# Altium footprint library 贴片.PcbLib: 161 footprints (part 4 of 11)
Each footprint in its own frame and in the unit in brackets; x right, y up, seen from the top. Pads: shape width x height; smd on the part's side, far side on the other; paste and mask are expansions set on the pad; w line width, h text height; cw(c..) or ccw(c..) is an arc to the next point about the centre after c.
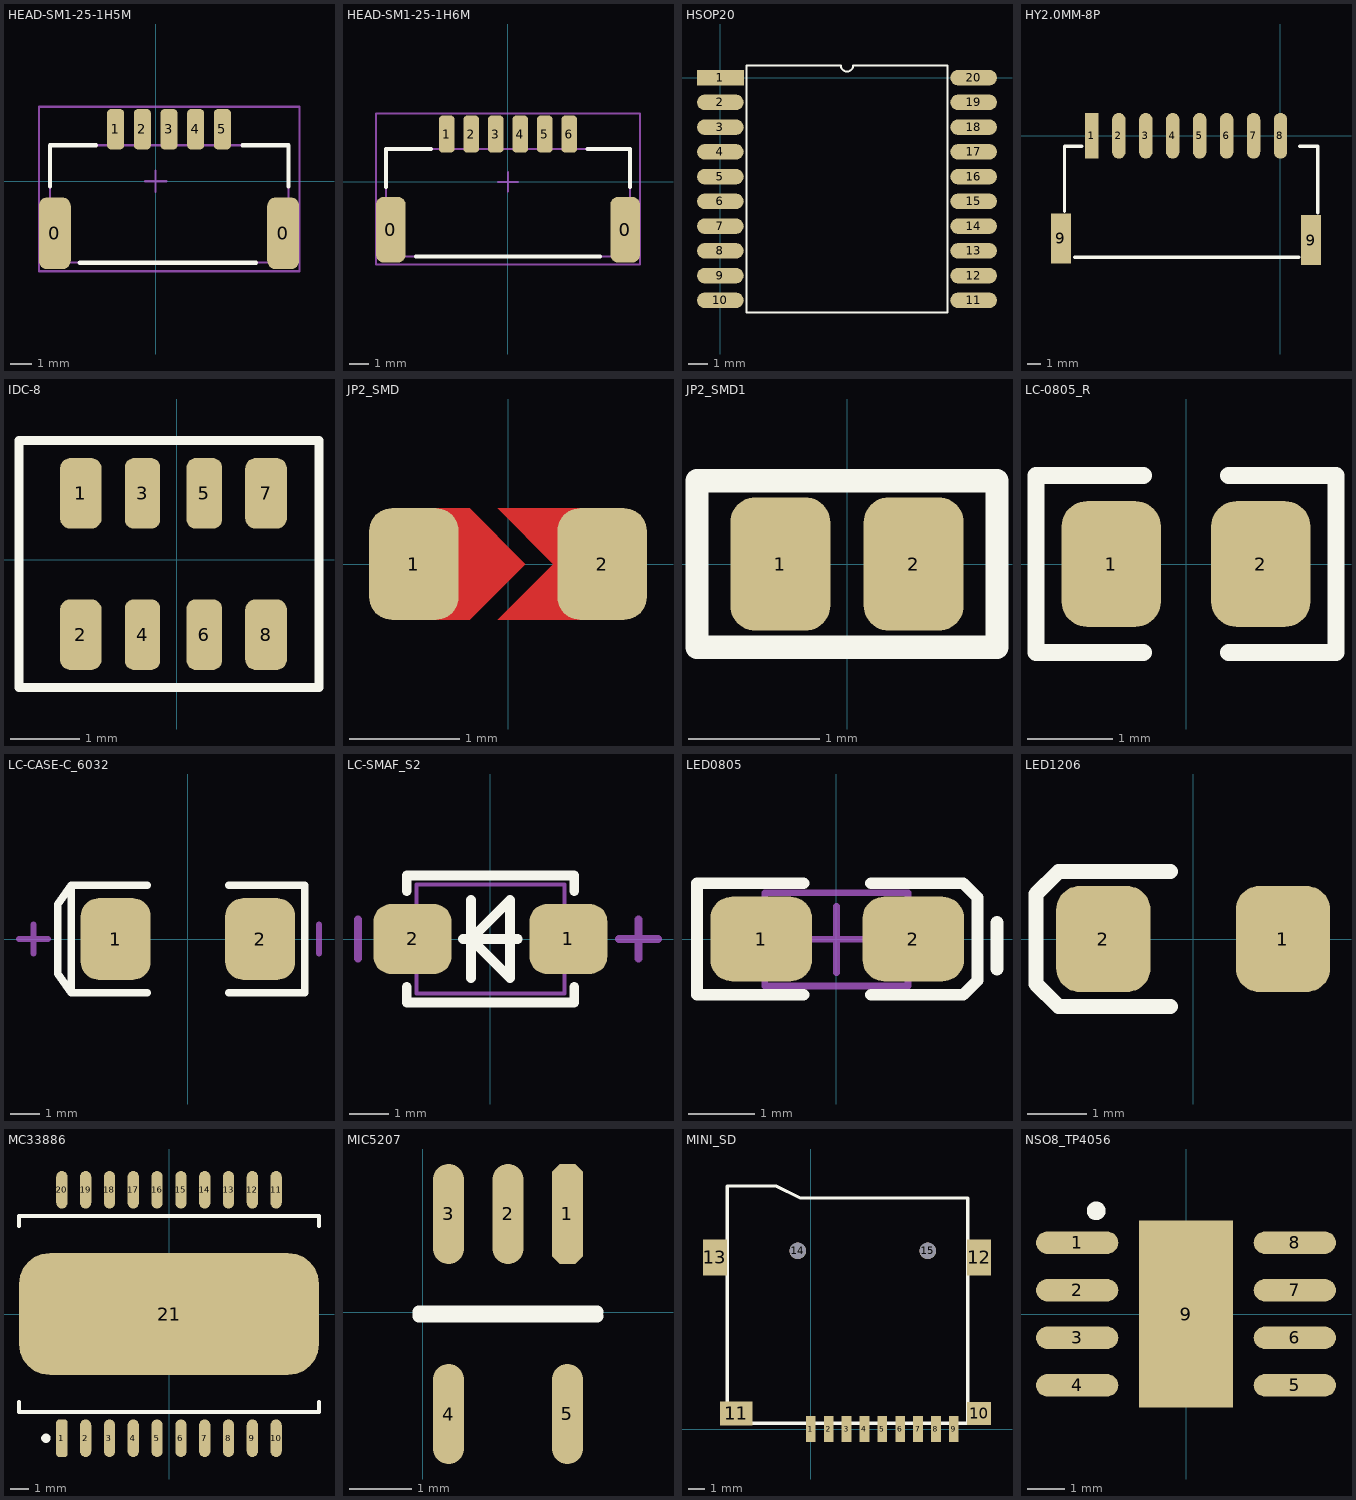
[diagram p3: the footprints below, top view; thin cyan lines are the x and y axes]

## HEAD-SM1-25-1H5M [mm] "Header, Wire-to-Board, SMT, Horizontal, 1-Row, Pitch 1.25mm, 2-Position"
pads (7):
  rrect50% 1.5x3.35 smd: 0(-4.725,-2.437) 0(5.975,-2.437)
  rrect50% 0.8x1.9 smd: 1(-1.875,2.438) 2(-0.625,2.438) 3(0.625,2.438) 4(1.875,2.438) 5(3.125,2.438)
Top Overlay:
  lines w0.2: -4.953,-0.25 -4.953,1.688 -2.794,1.688 ; -3.556,-3.81 4.699,-3.81 ; 4.064,1.688 6.223,1.688 6.223,-0.25
Mechanical 13:
  lines w0.1: -4.953,-3.812 6.223,-3.812 6.223,1.688 -4.953,1.688 -4.953,-3.812
Mechanical 15:
  lines w0.1: -0.5,0 0.5,0 ; 0,-0.5 0,0.5 ; -5.461,-4.212 6.731,-4.212 6.731,3.488 -5.461,3.488 -5.461,-4.212

## HEAD-SM1-25-1H6M [mm] "Header, Wire-to-Board, SMT, Horizontal, 1-Row, Pitch 1.25mm, 2-Position"
pads (8):
  rrect50% 1.5x3.35 smd: 0(-5.975,-2.437) 0(5.975,-2.437)
  rrect50% 0.8x1.9 smd: 1(-3.125,2.438) 2(-1.875,2.438) 3(-0.625,2.438) 4(0.625,2.438) 5(1.875,2.438) 6(3.125,2.438)
Top Overlay:
  lines w0.2: -6.223,-0.25 -6.223,1.688 -3.937,1.688 ; -4.699,-3.81 4.699,-3.81 ; 4.064,1.688 6.223,1.688 6.223,-0.25
Mechanical 13:
  lines w0.1: -6.223,-3.812 -6.223,1.688 6.223,1.688 6.223,-3.812 -6.223,-3.812
Mechanical 15:
  lines w0.1: -0.5,0 0.5,0 ; 0,-0.5 0,0.5 ; -6.731,-4.212 -6.731,3.488 6.731,3.488 6.731,-4.212 -6.731,-4.212

## HSOP20 [mm]
pads (20):
  rect 2.4x0.8 smd: 1(0,0)
  oval 2.4x0.8 smd: 2(0,-1.27) 3(0,-2.54) 4(0,-3.81) 5(0,-5.08) 6(0,-6.35) 7(0,-7.62) 8(0,-8.89) 9(0,-10.16) 10(0,-11.43) 11(13,-11.43) 12(13,-10.16) 13(13,-8.89) 14(13,-7.62) 15(13,-6.35) 16(13,-5.08) 17(13,-3.81) 18(13,-2.54) 19(13,-1.27) 20(13,0)
Top Overlay:
  lines w0.1: 1.335,-12.065 1.335,0.635 6.182,0.635 ccw(c6.5,0.635) 6.817,0.635 11.665,0.635 11.665,-12.065 1.335,-12.065

## HY2.0MM-8P [mm] "带扣 HY2.0 卧式贴片 2.0MM 8P 插座"
height 11.5
pads (10):
  rect 1x3.4 smd: 1(-13.97,0)
  oval 1x3.4 smd: 2(-11.97,0) 3(-9.97,0) 4(-7.97,0) 5(-5.97,0) 6(-3.97,0) 7(-1.97,0) 8(0.03,0)
  rect 1.5x3.7 smd: 9(-16.27,-7.62) 9(2.3,-7.747)
Top Overlay:
  lines w0.254: -16.002,-5.588 -16.002,-0.889 ; -16.002,-0.762 -14.707,-0.762 ; -15.24,-9.017 1.397,-9.017 ; 1.462,-0.762 2.757,-0.762 ; 2.794,-5.715 2.794,-0.762

## IDC-8 [mil]
pads (8):
  rrect50% 23.62x40 smd: 1(-54.33,37.68) 2(-54.33,-42.32) 7(50.67,37.68) 8(50.67,-42.32)
  rrect50% 20x40 smd: 3(-19.33,37.68) 4(-19.33,-42.32) 5(15.67,37.68) 6(15.67,-42.32)
Top Overlay:
  lines w5: -89.33,-72.32 -89.33,67.68 80.67,67.68 80.67,-72.32 -89.33,-72.32

## JP2_SMD [mil]
height 78.74
pads (2):
  rrect50% 32x40 smd: 1(-33.75,0) 2(33.75,0)
Top Layer:
  region: 26.25,0 16.25,0 -3.75,20 30,20
  region: 26.25,0 16.25,0 -3.75,-20 30,-20
  region: -30,-20 -13.75,-20 6.25,0 -13.75,20 -30,20
Top Paste:
  region: 26.25,0 16.25,0 -3.75,20 26.25,20
  region: 26.25,0 16.25,0 -3.75,-20 26.25,-20
  region: -23.75,-20 -13.75,-20 6.25,0 -13.75,20 -23.75,20
Top Solder:
  region: 26.25,0 12.25,0 -11.75,24 26.25,24
  region: 26.25,0 12.25,0 -11.75,-24 26.25,-24
  region: -23.75,-24 -13.75,-24 10.25,0 -13.75,24 -23.75,24

## JP2_SMD1 [mil]
height 78.74
pads (2):
  rrect50% 30x40 smd: 1(-20,0) 2(20,0)
Top Overlay:
  lines w7: -45,-25 45,-25 45,25 -45,25 -45,-25

## LC-0805_R [mm]
pads (2):
  rrect50% 1.16x1.47 smd: 1(-0.875,0) 2(0.875,0)
Top Overlay:
  lines w0.2: -0.5,-1.035 -1.755,-1.035 -1.755,1.035 -0.5,1.035 ; 0.5,-1.035 1.755,-1.035 1.755,1.035 0.5,1.035
3D body: height 0.49, standoff -0.01, extent -0.997,-0.625 1.003,0.625

## LC-CASE-C_6032 [mm]
pads (2):
  rrect50% 2.4x2.8 smd: 1(-2.48,0) 2(2.48,0)
Top Overlay:
  lines w0.254: -1.4,-1.85 -4.007,-1.85 ; -1.4,1.85 -4.007,1.85 ; 1.4,-1.85 4.007,-1.85 4.007,1.85 1.4,1.85 ; -4.007,-1.85 -4.47,-1.2 -4.47,1.2 -4.007,1.85 ; -4.007,-1.85 -4.007,1.85
Mechanical 15:
  lines w0.203: -5.8,0 -4.8,0 ; -5.3,-0.5 -5.3,0.5 ; 4.5,-0.5 4.5,0.5
3D body: height 2.7, standoff 0, extent -3.05,-1.675 3.05,1.675

## LC-SMAF_S2 [mm]
pads (2):
  rrect50% 2x1.8 smd: 1(2,0) 2(-2,0)
Top Overlay:
  lines w0.254: -2.15,-1.23 -2.15,-1.625 2.15,-1.625 2.15,-1.23 ; -2.15,1.23 -2.15,1.625 2.15,1.625 2.15,1.23 ; -0.7,0 0.7,0 ; -0.5,-1 -0.5,1 ; -0.5,0 0.5,-1 0.5,1 -0.5,0
Mechanical 13:
  lines w0.1: -1.9,-1.4 -1.9,1.4 1.9,1.4 1.9,-1.4 -1.9,-1.4
Mechanical 15:
  lines w0.203: -3.4,-0.5 -3.4,0.5 ; 3.3,0 4.3,0 ; 3.8,-0.5 3.8,0.5

## LED0805 [mil]
pads (2):
  rrect50% 60x50 smd: 1(-44.49,0.24) 2(45.51,0.24)
Top Overlay:
  lines w7: -19.49,-32.76 -82.49,-32.76 -82.49,33.24 -19.49,33.24 ; 20.51,-32.76 75,-32.76 83.51,-24.25 83.51,24.72 75,33.24 20.51,33.24
  lines w7.87: 95,-17.56 95,10
Mechanical 13:
  lines w3.94: -42.32,-27.56 42.32,-27.56 42.32,27.56 -42.32,27.56 -42.32,-27.56
Mechanical 15:
  lines w3.94: -19.68,0 19.69,0 ; 0,-19.68 0,19.69
3D body: height 27.56, standoff 0, extent -42.32,-27.56 42.32,27.56

## LED1206 [mm]
pads (2):
  rrect50% 1.6x1.8 smd: 1(1.524,0) 2(-1.524,0)
Top Overlay:
  lines w0.254: -0.381,-1.143 -2.286,-1.143 -2.667,-0.762 -2.667,0.762 -2.286,1.143 -0.381,1.143

## MC33886 [mm]
pads (21):
  rrect50% 0.6x2 smd: 1(-5.715,-6.625)
  oval 0.6x2 smd: 2(-4.445,-6.625) 3(-3.175,-6.625) 4(-1.905,-6.625) 5(-0.635,-6.625) 6(0.635,-6.625) 7(1.905,-6.625) 8(3.175,-6.625) 9(4.445,-6.625) 10(5.715,-6.625) 11(5.715,6.625) 12(4.445,6.625) 13(3.175,6.625) 14(1.905,6.625) 15(0.635,6.625) 16(-0.635,6.625) 17(-1.905,6.625) 18(-3.175,6.625) 19(-4.445,6.625) 20(-5.715,6.625)
  rrect50% 16x6.5 smd: 21(0,0)
Top Overlay:
  circle w0.25: c-6.565,-6.625 r0.125
  lines w0.2: -8,-4.7 -8,-5.225 8,-5.225 8,-4.7 ; -8,4.7 -8,5.225 8,5.225 8,4.7

## MIC5207 [mm]
pads (5):
  oct 0.5x1.6 smd: 1(2.311,1.575)
  oval 0.5x1.6 smd: 2(1.361,1.575) 3(0.411,1.575) 4(0.411,-1.625) 5(2.311,-1.625)
Top Overlay:
  lines w0.2: 2.786,-0.06 -0.064,-0.06 -0.064,0.01 2.786,0.01

## MINI_SD [mm]
pads (15):
  rect 0.6x1.6 smd: 1(0,0) 2(1.1,0) 3(2.2,0) 4(3.3,0) 5(4.4,0) 6(5.5,0) 7(6.6,0) 8(7.7,0) 9(8.8,0)
  rect 1.5x1.397 smd: 10(10.35,0.961)
  rect 2x1.5 smd: 11(-4.6,0.961)
  rect 1.5x2.21 smd: 12(10.35,10.561) 13(-5.9,10.561)
  round 1.016 hole 1.016: 14(-0.8,10.961) 15(7.2,10.961)
Top Overlay:
  lines w0.2: -5.15,0.361 -5.15,14.961 -2.15,14.961 -0.65,14.211 9.65,14.211 9.65,0.361 -5.15,0.361

## NSO8_TP4056 [mm] "SOIC-max660"
height 1.75
pads (9):
  oval 2.2x0.6 smd: 1(-2.908,1.905) 2(-2.908,0.635) 3(-2.908,-0.635) 4(-2.908,-1.905) 5(2.908,-1.905) 6(2.908,-0.635) 7(2.908,0.635) 8(2.908,1.905)
  rect 2.5x5 smd: 9(0,0)
Top Overlay:
  circle w0.25: c-2.4,2.755 r0.125